# Altium schematic symbol library Interface IC Sym Lib.SchLib: 9 symbols
Pins are listed as number, name and electrical type; pins without a type are passive.

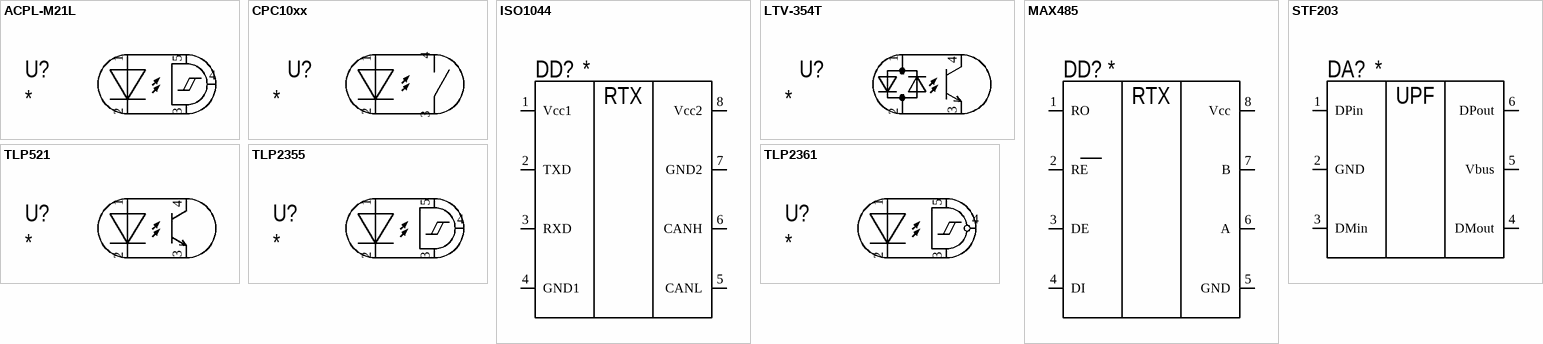
[diagram p0: symbols ACPL-M21L to TLP2361]

## ACPL-M21L
designator U?
Low Power, 5 MBd Digital CMOS Optocoupler; Model: *
pins: 1 Anode "Anode LED pin", 2 Cathode "Cathode LED pin", 3 GND "GND pin", 4 Vout "Vout pin", 5 Vcc "Vcc pin"

## CPC10xx
designator U?
Normally-Open Single-Pole Solid State Relay; Model: *
pins: 1 Anode "Anode LED pin", 2 Cathode "Cathode LED pin", 3 Out "Emitter Phototransistor pin", 4 Out "Vout pin"

## ISO1044
designator DD?
Isolated CAN FD Transceiver in Small Package; Model: *
pins: 1 Vcc1 "Digital-side supply voltage, Side 1", 2 TXD "CAN transmit data input (LOW for dominant and HIGH for recessive bus states)", 3 RXD "CAN receive data output (LOW for dominant and HIGH for recessive bus states)", 4 GND1 "Digital-side ground connection, Side 1", 5 CANL "Low-level CAN bus line", 6 CANH "High-level CAN bus line", 7 GND2 "Transceiver-side ground connection, Side 2", 8 Vcc2 "Transceiver-side supply voltage, Side 2"
text: RTX

## LTV-354T
designator U?
Bidirectional Input Transistor Optocoupler; Model: *
pins: 1 InA "LED pin", 2 InB "LED pin", 3 Emitter "Emitter Phototransistor pin", 4 Collector "Vout pin"

## MAX485
designator DD?
Low-power transceivers for RS-485 and RS-422; Model: *
pins: 1 RO "Receiver Output", 2 RE "Receiver Output Enable", 3 DE "Driver Output Enable", 4 DI "Driver Input", 5 GND "Ground", 6 A "Noninverting Receiver Input and Noninverting Driver Output", 7 B "Inverting Receiver Input and Inverting Driver Output", 8 Vcc "Positive Supply"
text: RTX

## STF203
designator DA?
USB Upstream Port Filter and TVS / For EMI Filtering and ESD Protection; Model: *
pins: 1 DPin "D+ USB line input", 2 GND "Ground", 3 DMin "D- USB line input", 4 DMout "D- USB line Output", 5 Vbus "Vbus USB", 6 DPout "D+USB line Output"
text: UPF

## TLP521
designator U?
Unidirectional Input Transistor Optocoupler; Model: *
pins: 1 Anode "Anode LED pin", 2 Cathode "Cathode LED pin", 3 Emitter "Emitter Phototransistor Pin", 4 Collector "Collector Phototransistor Pin"

## TLP2355
designator U?
5 MBd Digital Optocoupler, Buffer logic type; Model: *
pins: 1 Anode "Anode LED pin", 2 Cathode "Cathode LED pin", 3 GND "GND pin", 4 Vout "Vout pin", 5 Vcc "Vcc pin"

## TLP2361
designator U?
15 MBd Digital Optocoupler, Buffer Inverter logic type /; Model: *
pins: 1 Anode "Anode LED pin", 2 Cathode "Cathode LED pin", 3 GND "GND pin", 4 Vout "Vout pin", 5 Vcc "Vcc pin"